# EAGLE library part SPV1040T (library SPV1040T)
Voltage Regulators - Switching Regulators Hi efficiency solar battery charger Source: Datasheet <http://www.mouser.com/ds/2/389/spv1040-974182.pdf>
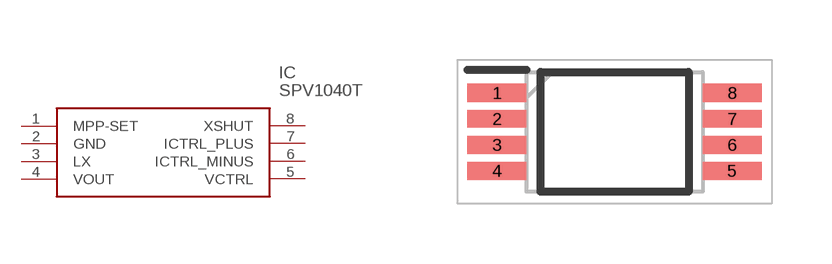
[diagram p0: symbol with the pads of SOP65P640X120-8N; footprint SOP65P640X120-8N]

Designator prefix IC

## SPV1040T (Arrow_Part_Number: SPV1040T; Arrow_Price-Stock: https://www.arrow.com/en/products/spv1040t/stmicroelectronics?region=europe; Description: Voltage Regulators - Switching Regulators Hi efficiency solar battery charger; Height: 1.2mm; Manufacturer_Name: STMicroelectronics; Manufacturer_Part_Number: SPV1040T; Mouser_Part_Number: 511-SPV1040T; Mouser_Price-Stock: https://www.mouser.co.uk/ProductDetail/STMicroelectronics/SPV1040T?qs=7qOP6AeGKU1lga8RjcaFUQ%3D%3D)  [SOP65P640X120-8N]
1  MPP-SET
2  GND
3  LX
4  VOUT
5  VCTRL
6  ICTRL_MINUS
7  ICTRL_PLUS
8  XSHUT

## Footprint SOP65P640X120-8N (pad centres in mm)
TSSOP-8
smd 1.475 x 0.45: 1 -2.938,0.975; 2 -2.938,0.325; 3 -2.938,-0.325; 4 -2.938,-0.975; 5 2.938,-0.975; 6 2.938,-0.325; 7 2.938,0.325; 8 2.938,0.975